# EAGLE library part 1787111 (library con-phoenix-350)
DMC_1,5/12-G1F-3,5-LR_P20THR Pluggable Terminal Blocks 12 Pos 3.5mm Dbl Row Through Hole Header
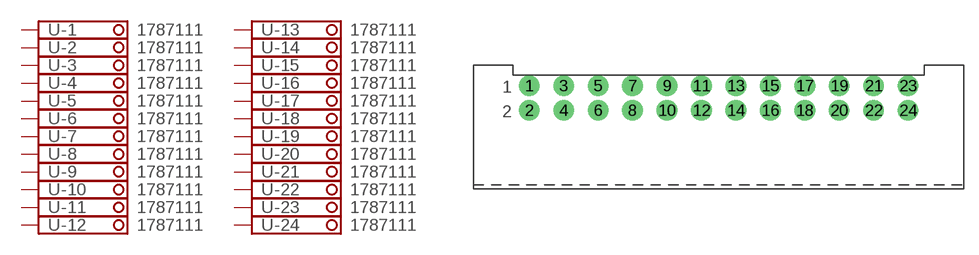
[diagram p20: symbol with the pads of 1787111; footprint 1787111]

Designator prefix -; gates -1=SCHRAUBKLEMME -2=SCHRAUBKLEMME -3=SCHRAUBKLEMME -4=SCHRAUBKLEMME -5=SCHRAUBKLEMME -6=SCHRAUBKLEMME -7=SCHRAUBKLEMME -8=SCHRAUBKLEMME -9=SCHRAUBKLEMME -10=SCHRAUBKLEMME -11=SCHRAUBKLEMME -12=SCHRAUBKLEMME -13=SCHRAUBKLEMME -14=SCHRAUBKLEMME -15=SCHRAUBKLEMME -16=SCHRAUBKLEMME -17=SCHRAUBKLEMME -18=SCHRAUBKLEMME -19=SCHRAUBKLEMME -20=SCHRAUBKLEMME -21=SCHRAUBKLEMME -22=SCHRAUBKLEMME -23=SCHRAUBKLEMME -24=SCHRAUBKLEMME

## 1787111  [1787111]
1  -1:K  pas
2  -2:K  pas
3  -3:K  pas
4  -4:K  pas
5  -5:K  pas
6  -6:K  pas
7  -7:K  pas
8  -8:K  pas
9  -9:K  pas
10  -10:K  pas
11  -11:K  pas
12  -12:K  pas
13  -13:K  pas
14  -14:K  pas
15  -15:K  pas
16  -16:K  pas
17  -17:K  pas
18  -18:K  pas
19  -19:K  pas
20  -20:K  pas
21  -21:K  pas
22  -22:K  pas
23  -23:K  pas
24  -24:K  pas

## Footprint 1787111 (pad centres in mm)
drill 1.4: 1 -19.25,4.7; 2 -19.25,2.2; 3 -15.75,4.7; 4 -15.75,2.2; 5 -12.25,4.7; 6 -12.25,2.2; 7 -8.75,4.7; 8 -8.75,2.2; 9 -5.25,4.7; 10 -5.25,2.2; 11 -1.75,4.7; 12 -1.75,2.2; 13 1.75,4.7; 14 1.75,2.2; 15 5.25,4.7; 16 5.25,2.2; 17 8.75,4.7; 18 8.75,2.2; 19 12.25,4.7; 20 12.25,2.2; 21 15.75,4.7; 22 15.75,2.2; 23 19.25,4.7; 24 19.25,2.2